# Altium footprint library SOIC - SmallOutlineIntegratedCircuit.PcbLib: 18 footprints (part 1 of 2)
Each footprint in its own frame and in the unit in brackets; x right, y up, seen from the top. Pads: shape width x height; smd on the part's side, far side on the other; paste and mask are expansions set on the pad; w line width, h text height; cw(c..) or ccw(c..) is an arc to the next point about the centre after c.
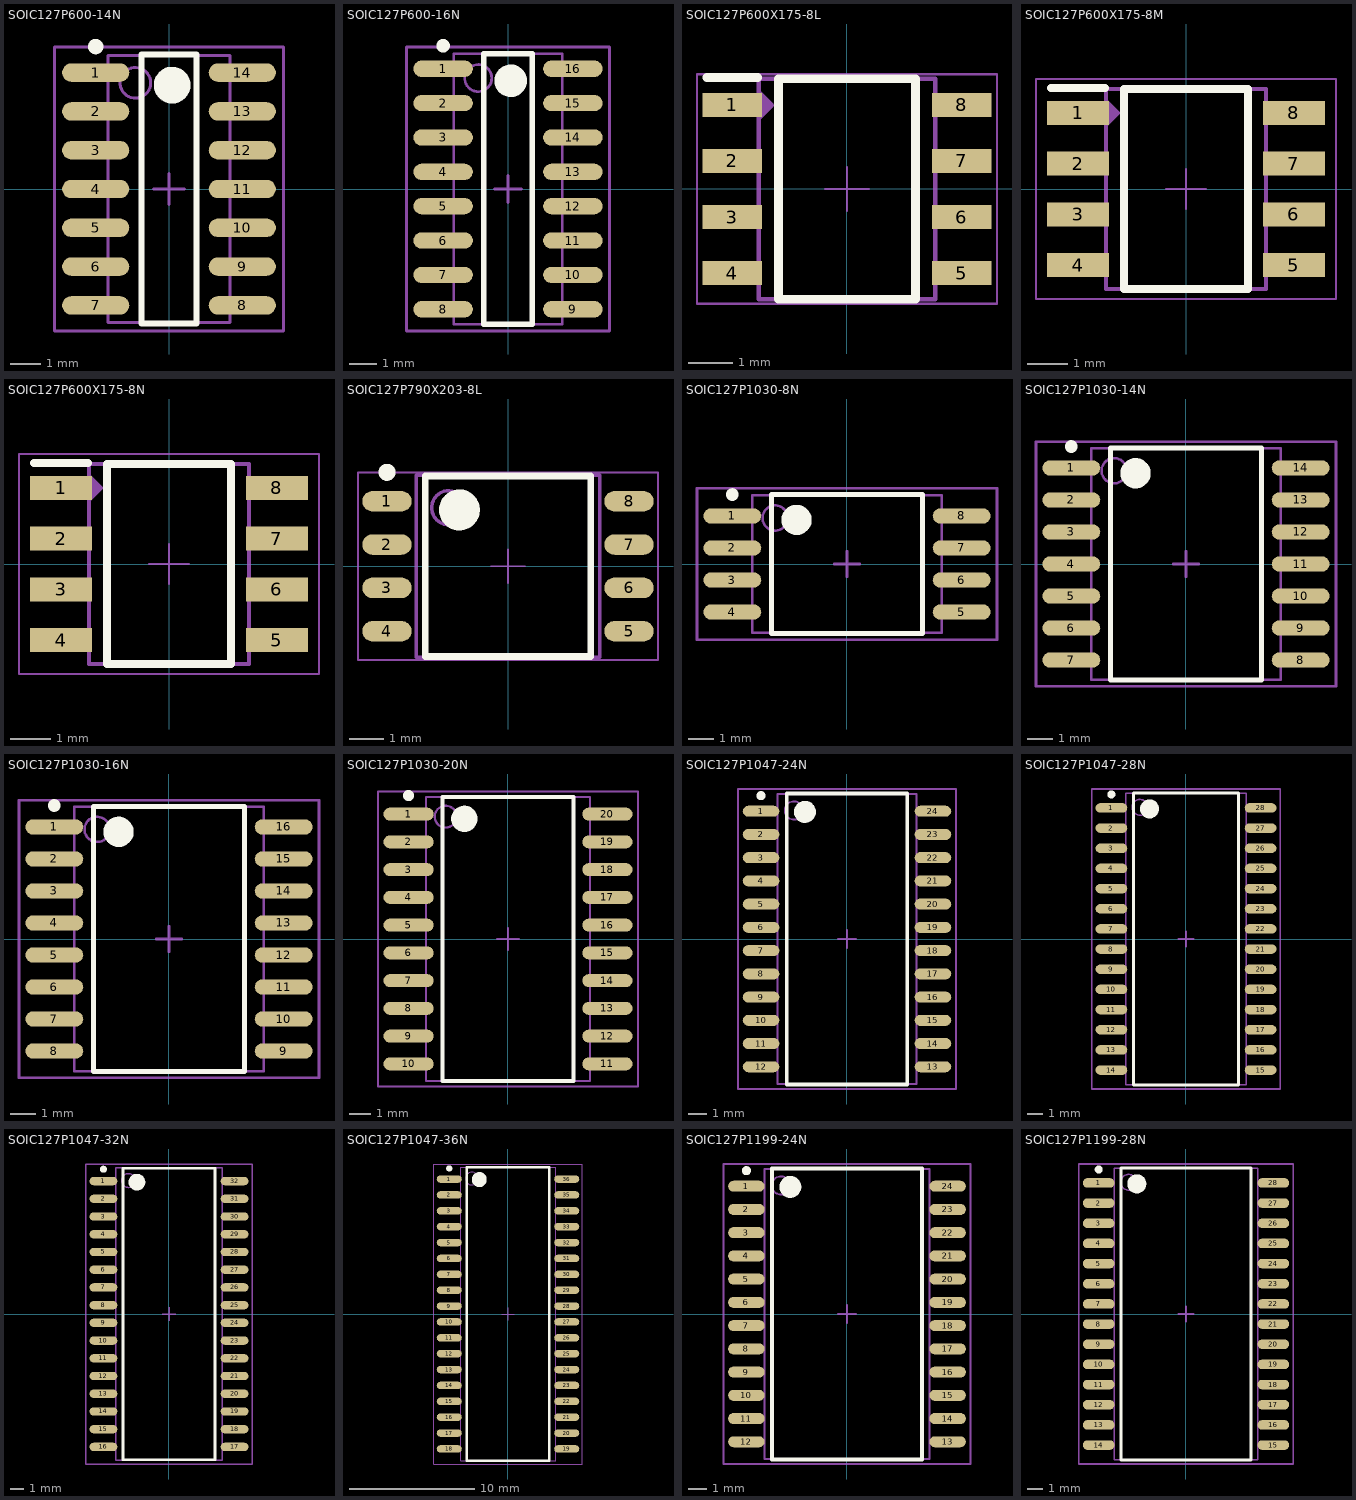
[diagram p0: the footprints below, top view; thin cyan lines are the x and y axes]

## SOIC127P600-14N [mm] "SOIC, 14-Leads, Body 8.7x3.9mm, Pitch 1.27mm, IPC Medium Density"
height 1.75
pads (14):
  oval 2.2x0.6 smd: 1(-2.4,3.81) 2(-2.4,2.54) 3(-2.4,1.27) 4(-2.4,0) 5(-2.4,-1.27) 6(-2.4,-2.54) 7(-2.4,-3.81) 8(2.4,-3.81) 9(2.4,-2.54) 10(2.4,-1.27) 11(2.4,0) 12(2.4,1.27) 13(2.4,2.54) 14(2.4,3.81)
Top Overlay:
  circle w0.25: c-2.4,4.66 r0.125
  circle w0.6: c0.1,3.4 r0.3
  lines w0.2: -0.9,-4.4 -0.9,4.4 0.9,4.4 0.9,-4.4 -0.9,-4.4
TopBody:
  circle w0.1: c-1.1,3.475 r0.5
  lines w0.1: -2,-4.375 -2,4.375 2,4.375 2,-4.375 -2,-4.375
  text ".Designator" at -0.8,-0.175 h0.5
TopCourtyard:
  lines w0.1: -0.5,0 0.5,0 ; 0,-0.5 0,0.5 ; -3.75,-4.65 -3.75,4.65 3.75,4.65 3.75,-4.65 -3.75,-4.65
3D body: height 1.75, standoff 0, extent -2,-4.375 2,4.375

## SOIC127P600-16N [mm] "SOIC, 16-Leads, Body 9.9x3.9mm, Pitch 1.27mm, IPC Medium Density"
height 1.75
pads (16):
  oval 2.2x0.6 smd: 1(-2.4,4.445) 2(-2.4,3.175) 3(-2.4,1.905) 4(-2.4,0.635) 5(-2.4,-0.635) 6(-2.4,-1.905) 7(-2.4,-3.175) 8(-2.4,-4.445) 9(2.4,-4.445) 10(2.4,-3.175) 11(2.4,-1.905) 12(2.4,-0.635) 13(2.4,0.635) 14(2.4,1.905) 15(2.4,3.175) 16(2.4,4.445)
Top Overlay:
  circle w0.25: c-2.4,5.295 r0.125
  circle w0.6: c0.1,4 r0.3
  lines w0.2: -0.9,-5 -0.9,5 0.9,5 0.9,-5 -0.9,-5
TopBody:
  circle w0.1: c-1.1,4.1 r0.5
  lines w0.1: -2,-5 -2,5 2,5 2,-5 -2,-5
  text ".Designator" at -0.825,-0.175 h0.5
TopCourtyard:
  lines w0.1: -0.5,0 0.5,0 ; 0,-0.5 0,0.5 ; -3.75,-5.25 -3.75,5.25 3.75,5.25 3.75,-5.25 -3.75,-5.25
3D body: height 1.75, standoff 0, extent -2,-5 2,5

## SOIC127P600X175-8L [mm] "SOIC, 8-Leads, Body 5.0x4.0mm, Pitch 1.27mm, IPC High Density"
height 1.75
pads (8):
  rect 1.35x0.55 smd: 1(-2.6,1.905) 2(-2.6,0.635) 3(-2.6,-0.635) 4(-2.6,-1.905) 5(2.6,-1.905) 6(2.6,-0.635) 7(2.6,0.635) 8(2.6,1.905)
Top Overlay:
  lines w0.2: -3.175,2.525 -2.025,2.525 ; -1.55,-2.5 -1.55,2.5 1.55,2.5 1.55,-2.5 -1.55,-2.5
TopBody:
  lines w0.1: -2,1.6 -1.7,1.9 -2,2.2 ; -2,1.7 -1.8,1.9 -2,2.1 ; -2,1.8 -1.9,1.9 -2,2 ; -2,-2.5 -2,2.5 2,2.5 2,-2.5 -2,-2.5
  text ".Designator" at -0.825,-0.175 h0.5
TopCourtyard:
  lines w0.05: -0.5,0 0.5,0 ; 0,-0.5 0,0.5 ; -3.4,-2.6 3.4,-2.6 3.4,2.6 -3.4,2.6 -3.4,-2.6
3D body: height 1.75, standoff 0, extent -2,-2.5 2,2.5

## SOIC127P600X175-8M [mm] "SOIC, 8-Leads, Body 5.0x4.0mm, Pitch 1.27mm, IPC Low Density"
height 1.75
pads (8):
  rect 1.55x0.6 smd: 1(-2.7,1.905) 2(-2.7,0.635) 3(-2.7,-0.635) 4(-2.7,-1.905) 5(2.7,-1.905) 6(2.7,-0.635) 7(2.7,0.635) 8(2.7,1.905)
Top Overlay:
  lines w0.2: -3.375,2.525 -2.025,2.525 ; -1.55,-2.5 -1.55,2.5 1.55,2.5 1.55,-2.5 -1.55,-2.5
TopBody:
  lines w0.1: -2,1.6 -1.7,1.9 -2,2.2 ; -2,1.7 -1.8,1.9 -2,2.1 ; -2,1.8 -1.9,1.9 -2,2 ; -2,-2.5 -2,2.5 2,2.5 2,-2.5 -2,-2.5
  text ".Designator" at -0.825,-0.175 h0.5
TopCourtyard:
  lines w0.05: -0.5,0 0.5,0 ; 0,-0.5 0,0.5 ; -3.75,-2.75 -3.75,2.75 3.75,2.75 3.75,-2.75 -3.75,-2.75
3D body: height 1.75, standoff 0, extent -2,-2.5 2,2.5

## SOIC127P600X175-8N [mm] "SOIC, 8-Leads, Body 5.0x4.0mm, Pitch 1.27mm, IPC Medium Density"
height 1.75
pads (8):
  rect 1.55x0.6 smd: 1(-2.7,1.905) 2(-2.7,0.635) 3(-2.7,-0.635) 4(-2.7,-1.905) 5(2.7,-1.905) 6(2.7,-0.635) 7(2.7,0.635) 8(2.7,1.905)
Top Overlay:
  lines w0.2: -3.375,2.525 -2.025,2.525 ; -1.55,-2.5 -1.55,2.5 1.55,2.5 1.55,-2.5 -1.55,-2.5
TopBody:
  lines w0.1: -2,1.6 -1.7,1.9 -2,2.2 ; -2,1.7 -1.8,1.9 -2,2.1 ; -2,1.8 -1.9,1.9 -2,2 ; -2,-2.5 -2,2.5 2,2.5 2,-2.5 -2,-2.5
  text ".Designator" at -0.825,-0.175 h0.5
TopCourtyard:
  lines w0.05: -0.5,0 0.5,0 ; 0,-0.5 0,0.5 ; -3.75,-2.75 -3.75,2.75 3.75,2.75 3.75,-2.75 -3.75,-2.75
3D body: height 1.75, standoff 0, extent -2,-2.5 2,2.5

## SOIC127P790X203-8L [mm] "SOIC, 8-Leads, Body 5.3x5.4mm (max), Pitch 1.27mm, IPC High Density"
height 2.03
pads (8):
  oval 1.45x0.6 smd: 1(-3.55,1.905) 2(-3.55,0.635) 3(-3.55,-0.635) 4(-3.55,-1.905) 5(3.55,-1.905) 6(3.55,-0.635) 7(3.55,0.635) 8(3.55,1.905)
Top Overlay:
  circle w0.6: c-1.425,1.65 r0.3
  circle w0.25: c-3.55,2.755 r0.125
  lines w0.2: -2.425,-2.65 2.425,-2.65 2.425,2.65 -2.425,2.65 -2.425,-2.65
TopBody:
  circle w0.1: c-1.74,1.715 r0.5
  lines w0.1: -2.69,-2.665 2.69,-2.665 2.69,2.665 -2.69,2.665 -2.69,-2.665
TopCourtyard:
  lines w0.05: -0.5,0 0,0 ; 0,-0.5 0,0 ; 0,0.5 0,0 ; 0.5,0 0,0 ; -4.4,-2.75 4.4,-2.75 4.4,2.75 -4.4,2.75 -4.4,-2.75
3D body: height 2.03, standoff 0.05, extent -2.69,-2.665 2.69,2.665

## SOIC127P1030-8N [mm] "SOIC, 8-Leads, Body 5.3x7.5mm, Pitch 1.27mm, IPC Medium Density"
height 2.65
pads (8):
  oval 2.3x0.6 smd: 1(-4.55,1.905) 2(-4.55,0.635) 3(-4.55,-0.635) 4(-4.55,-1.905) 5(4.55,-1.905) 6(4.55,-0.635) 7(4.55,0.635) 8(4.55,1.905)
Top Overlay:
  circle w0.6: c-2,1.75 r0.3
  circle w0.25: c-4.55,2.755 r0.125
  lines w0.2: -3,-2.75 3,-2.75 3,2.75 -3,2.75 -3,-2.75
TopBody:
  circle w0.1: c-2.85,1.825 r0.5
  lines w0.1: -3.75,-2.725 3.75,-2.725 3.75,2.725 -3.75,2.725 -3.75,-2.725
  text ".Designator" at -0.825,-0.175 h0.5
TopCourtyard:
  lines w0.1: -0.5,0 0.5,0 ; 0,-0.5 0,0.5 ; -5.95,-3 5.95,-3 5.95,3 -5.95,3 -5.95,-3
3D body: height 2.65, standoff 0, extent -3.75,-2.725 3.75,2.725

## SOIC127P1030-14N [mm] "SOIC, 14-Leads, Body 9x7.5mm, Pitch 1.27mm, IPC Medium Density"
height 2.65
pads (14):
  oval 2.3x0.6 smd: 1(-4.55,3.81) 2(-4.55,2.54) 3(-4.55,1.27) 4(-4.55,0) 5(-4.55,-1.27) 6(-4.55,-2.54) 7(-4.55,-3.81) 8(4.55,-3.81) 9(4.55,-2.54) 10(4.55,-1.27) 11(4.55,0) 12(4.55,1.27) 13(4.55,2.54) 14(4.55,3.81)
Top Overlay:
  circle w0.6: c-2,3.6 r0.3
  circle w0.25: c-4.55,4.66 r0.125
  lines w0.2: -3,-4.6 3,-4.6 3,4.6 -3,4.6 -3,-4.6
TopBody:
  circle w0.1: c-2.85,3.7 r0.5
  lines w0.1: -3.75,-4.6 3.75,-4.6 3.75,4.6 -3.75,4.6 -3.75,-4.6
  text ".Designator" at -0.825,-0.175 h0.5
TopCourtyard:
  lines w0.1: -0.5,0 0.5,0 ; 0,-0.5 0,0.5 ; -5.95,-4.85 5.95,-4.85 5.95,4.85 -5.95,4.85 -5.95,-4.85
3D body: height 2.65, standoff 0, extent -3.75,-4.6 3.75,4.6

## SOIC127P1030-16N [mm] "SOIC, 16-Leads, Body 10.3x7.5mm, Pitch 1.27mm, IPC Medium Density"
height 2.65
pads (16):
  oval 2.3x0.6 smd: 1(-4.55,4.445) 2(-4.55,3.175) 3(-4.55,1.905) 4(-4.55,0.635) 5(-4.55,-0.635) 6(-4.55,-1.905) 7(-4.55,-3.175) 8(-4.55,-4.445) 9(4.55,-4.445) 10(4.55,-3.175) 11(4.55,-1.905) 12(4.55,-0.635) 13(4.55,0.635) 14(4.55,1.905) 15(4.55,3.175) 16(4.55,4.445)
Top Overlay:
  circle w0.25: c-4.55,5.295 r0.125
  circle w0.6: c-2,4.25 r0.3
  lines w0.2: -3,-5.25 -3,5.25 3,5.25 3,-5.25 -3,-5.25
TopBody:
  circle w0.1: c-2.85,4.35 r0.5
  lines w0.1: -3.75,-5.25 -3.75,5.25 3.75,5.25 3.75,-5.25 -3.75,-5.25
  text ".Designator" at -0.825,-0.175 h0.5
TopCourtyard:
  lines w0.1: -0.5,0 0.5,0 ; 0,-0.5 0,0.5 ; -5.95,-5.5 -5.95,5.5 5.95,5.5 5.95,-5.5 -5.95,-5.5
3D body: height 2.65, standoff 0, extent -3.75,-5.25 3.75,5.25

## SOIC127P1030-20N [mm] "SOIC, 20-Leads, Body 12.8x7.5mm, Pitch 1.27mm, IPC Medium Density"
height 2.65
pads (20):
  oval 2.3x0.6 smd: 1(-4.55,5.715) 2(-4.55,4.445) 3(-4.55,3.175) 4(-4.55,1.905) 5(-4.55,0.635) 6(-4.55,-0.635) 7(-4.55,-1.905) 8(-4.55,-3.175) 9(-4.55,-4.445) 10(-4.55,-5.715) 11(4.55,-5.715) 12(4.55,-4.445) 13(4.55,-3.175) 14(4.55,-1.905) 15(4.55,-0.635) 16(4.55,0.635) 17(4.55,1.905) 18(4.55,3.175) 19(4.55,4.445) 20(4.55,5.715)
Top Overlay:
  circle w0.25: c-4.55,6.565 r0.125
  circle w0.6: c-2,5.5 r0.3
  lines w0.2: -3,-6.5 -3,6.5 3,6.5 3,-6.5 -3,-6.5
TopBody:
  circle w0.1: c-2.85,5.6 r0.5
  lines w0.1: -3.75,-6.5 -3.75,6.5 3.75,6.5 3.75,-6.5 -3.75,-6.5
  text ".Designator" at -0.825,-0.175 h0.5
TopCourtyard:
  lines w0.1: -0.5,0 0.5,0 ; 0,-0.5 0,0.5 ; -5.95,-6.75 -5.95,6.75 5.95,6.75 5.95,-6.75 -5.95,-6.75
3D body: height 2.65, standoff 0, extent -3.75,-6.5 3.75,6.5

## SOIC127P1047-24N [mm] "SOIC, 24-Leads, Body 15.4x7.5mm, Pitch 1.27mm, IPC Medium Density"
height 2.67
pads (24):
  oval 2x0.6 smd: 1(-4.7,6.985) 2(-4.7,5.715) 3(-4.7,4.445) 4(-4.7,3.175) 5(-4.7,1.905) 6(-4.7,0.635) 7(-4.7,-0.635) 8(-4.7,-1.905) 9(-4.7,-3.175) 10(-4.7,-4.445) 11(-4.7,-5.715) 12(-4.7,-6.985) 13(4.7,-6.985) 14(4.7,-5.715) 15(4.7,-4.445) 16(4.7,-3.175) 17(4.7,-1.905) 18(4.7,-0.635) 19(4.7,0.635) 20(4.7,1.905) 21(4.7,3.175) 22(4.7,4.445) 23(4.7,5.715) 24(4.7,6.985)
Top Overlay:
  circle w0.25: c-4.7,7.835 r0.125
  circle w0.6: c-2.3,6.95 r0.3
  lines w0.2: -3.3,-7.95 -3.3,7.95 3.3,7.95 3.3,-7.95 -3.3,-7.95
TopBody:
  circle w0.1: c-2.9,7.025 r0.5
  lines w0.1: -3.8,-7.925 -3.8,7.925 3.8,7.925 3.8,-7.925 -3.8,-7.925
  text ".Designator" at -0.825,-0.175 h0.5
TopCourtyard:
  lines w0.1: -0.5,0 0.5,0 ; 0,-0.5 0,0.5 ; -5.95,-8.2 -5.95,8.2 5.95,8.2 5.95,-8.2 -5.95,-8.2
3D body: height 2.67, standoff 0, extent -3.8,-7.925 3.8,7.925

## SOIC127P1047-28N [mm] "SOIC, 28-Leads, Body 18.2x7.5mm, Pitch 1.27mm, IPC Medium Density"
height 2.64
pads (28):
  oval 2x0.6 smd: 1(-4.7,8.255) 2(-4.7,6.985) 3(-4.7,5.715) 4(-4.7,4.445) 5(-4.7,3.175) 6(-4.7,1.905) 7(-4.7,0.635) 8(-4.7,-0.635) 9(-4.7,-1.905) 10(-4.7,-3.175) 11(-4.7,-4.445) 12(-4.7,-5.715) 13(-4.7,-6.985) 14(-4.7,-8.255) 15(4.7,-8.255) 16(4.7,-6.985) 17(4.7,-5.715) 18(4.7,-4.445) 19(4.7,-3.175) 20(4.7,-1.905) 21(4.7,-0.635) 22(4.7,0.635) 23(4.7,1.905) 24(4.7,3.175) 25(4.7,4.445) 26(4.7,5.715) 27(4.7,6.985) 28(4.7,8.255)
Top Overlay:
  circle w0.6: c-2.3,8.2 r0.3
  circle w0.25: c-4.7,9.105 r0.125
  lines w0.2: -3.3,-9.2 3.3,-9.2 3.3,9.2 -3.3,9.2 -3.3,-9.2
TopBody:
  circle w0.1: c-2.9,8.295 r0.5
  lines w0.1: -3.8,-9.195 3.8,-9.195 3.8,9.195 -3.8,9.195 -3.8,-9.195
  text ".Designator" at -0.85,-0.175 h0.5
TopCourtyard:
  lines w0.1: -0.5,0 0.5,0 ; 0,-0.5 0,0.5 ; -5.95,-9.45 5.95,-9.45 5.95,9.45 -5.95,9.45 -5.95,-9.45
3D body: height 2.64, standoff 0, extent -3.8,-9.195 3.8,9.195

## SOIC127P1047-32N [mm] "SOIC, 32-Leads, Body 20.8x7.5mm, Pitch 1.27mm, IPC Medium Density"
height 2.64
pads (32):
  oval 2x0.6 smd: 1(-4.7,9.525) 2(-4.7,8.255) 3(-4.7,6.985) 4(-4.7,5.715) 5(-4.7,4.445) 6(-4.7,3.175) 7(-4.7,1.905) 8(-4.7,0.635) 9(-4.7,-0.635) 10(-4.7,-1.905) 11(-4.7,-3.175) 12(-4.7,-4.445) 13(-4.7,-5.715) 14(-4.7,-6.985) 15(-4.7,-8.255) 16(-4.7,-9.525) 17(4.7,-9.525) 18(4.7,-8.255) 19(4.7,-6.985) 20(4.7,-5.715) 21(4.7,-4.445) 22(4.7,-3.175) 23(4.7,-1.905) 24(4.7,-0.635) 25(4.7,0.635) 26(4.7,1.905) 27(4.7,3.175) 28(4.7,4.445) 29(4.7,5.715) 30(4.7,6.985) 31(4.7,8.255) 32(4.7,9.525)
Top Overlay:
  circle w0.6: c-2.3,9.45 r0.3
  circle w0.25: c-4.7,10.375 r0.125
  lines w0.2: -3.3,-10.45 3.3,-10.45 3.3,10.45 -3.3,10.45 -3.3,-10.45
TopBody:
  circle w0.1: c-2.9,9.565 r0.5
  lines w0.1: -3.8,-10.465 3.8,-10.465 3.8,10.465 -3.8,10.465 -3.8,-10.465
  text ".Designator" at -0.85,-0.175 h0.5
TopCourtyard:
  lines w0.1: -0.5,0 0.5,0 ; 0,-0.5 0,0.5 ; -5.95,-10.75 5.95,-10.75 5.95,10.75 -5.95,10.75 -5.95,-10.75
3D body: height 2.64, standoff 0, extent -3.8,-10.465 3.8,10.465

## SOIC127P1047-36N [mm] "SOIC, 36-Leads, Body 23.3x7.5mm, Pitch 1.27mm, IPC Medium Density"
height 2.64
pads (36):
  oval 2x0.6 smd: 1(-4.7,10.795) 2(-4.7,9.525) 3(-4.7,8.255) 4(-4.7,6.985) 5(-4.7,5.715) 6(-4.7,4.445) 7(-4.7,3.175) 8(-4.7,1.905) 9(-4.7,0.635) 10(-4.7,-0.635) 11(-4.7,-1.905) 12(-4.7,-3.175) 13(-4.7,-4.445) 14(-4.7,-5.715) 15(-4.7,-6.985) 16(-4.7,-8.255) 17(-4.7,-9.525) 18(-4.7,-10.795) 19(4.7,-10.795) 20(4.7,-9.525) 21(4.7,-8.255) 22(4.7,-6.985) 23(4.7,-5.715) 24(4.7,-4.445) 25(4.7,-3.175) 26(4.7,-1.905) 27(4.7,-0.635) 28(4.7,0.635) 29(4.7,1.905) 30(4.7,3.175) 31(4.7,4.445) 32(4.7,5.715) 33(4.7,6.985) 34(4.7,8.255) 35(4.7,9.525) 36(4.7,10.795)
Top Overlay:
  circle w0.25: c-4.7,11.645 r0.125
  circle w0.6: c-2.3,10.75 r0.3
  lines w0.2: -3.3,-11.75 -3.3,11.75 3.3,11.75 3.3,-11.75 -3.3,-11.75
TopBody:
  circle w0.1: c-2.9,10.835 r0.5
  lines w0.1: -3.8,-11.735 -3.8,11.735 3.8,11.735 3.8,-11.735 -3.8,-11.735
  text ".Designator" at -0.85,-0.175 h0.5
TopCourtyard:
  lines w0.1: -0.5,0 0.5,0 ; 0,-0.5 0,0.5 ; -5.95,-12 -5.95,12 5.95,12 5.95,-12 -5.95,-12
3D body: height 2.64, standoff 0, extent -3.8,-11.735 3.8,11.735

## SOIC127P1199-24N [mm] "SOIC, 24-Leads, Body 15.7x8.9mm, Pitch 1.27mm, IPC Medium Density"
height 2.64
pads (24):
  oval 2x0.6 smd: 1(-5.5,6.985) 2(-5.5,5.715) 3(-5.5,4.445) 4(-5.5,3.175) 5(-5.5,1.905) 6(-5.5,0.635) 7(-5.5,-0.635) 8(-5.5,-1.905) 9(-5.5,-3.175) 10(-5.5,-4.445) 11(-5.5,-5.715) 12(-5.5,-6.985) 13(5.5,-6.985) 14(5.5,-5.715) 15(5.5,-4.445) 16(5.5,-3.175) 17(5.5,-1.905) 18(5.5,-0.635) 19(5.5,0.635) 20(5.5,1.905) 21(5.5,3.175) 22(5.5,4.445) 23(5.5,5.715) 24(5.5,6.985)
Top Overlay:
  circle w0.6: c-3.1,6.95 r0.3
  circle w0.25: c-5.5,7.835 r0.125
  lines w0.2: -4.1,-7.95 4.1,-7.95 4.1,7.95 -4.1,7.95 -4.1,-7.95
TopBody:
  circle w0.1: c-3.61,7.025 r0.5
  lines w0.1: -4.51,-7.925 4.51,-7.925 4.51,7.925 -4.51,7.925 -4.51,-7.925
  text ".Designator" at -0.825,-0.175 h0.5
TopCourtyard:
  lines w0.1: -0.5,0 0.5,0 ; 0,-0.5 0,0.5 ; -6.75,-8.2 6.75,-8.2 6.75,8.2 -6.75,8.2 -6.75,-8.2
3D body: height 2.64, standoff 0, extent -4.51,-7.925 4.51,7.925

## SOIC127P1199-28N [mm] "SOIC, 28-Leads, Body 18.3x8.4mm, Pitch 1.27mm, IPC Medium Density"
height 3
pads (28):
  oval 2x0.6 smd: 1(-5.5,8.255) 2(-5.5,6.985) 3(-5.5,5.715) 4(-5.5,4.445) 5(-5.5,3.175) 6(-5.5,1.905) 7(-5.5,0.635) 8(-5.5,-0.635) 9(-5.5,-1.905) 10(-5.5,-3.175) 11(-5.5,-4.445) 12(-5.5,-5.715) 13(-5.5,-6.985) 14(-5.5,-8.255) 15(5.5,-8.255) 16(5.5,-6.985) 17(5.5,-5.715) 18(5.5,-4.445) 19(5.5,-3.175) 20(5.5,-1.905) 21(5.5,-0.635) 22(5.5,0.635) 23(5.5,1.905) 24(5.5,3.175) 25(5.5,4.445) 26(5.5,5.715) 27(5.5,6.985) 28(5.5,8.255)
Top Overlay:
  circle w0.6: c-3.1,8.2 r0.3
  circle w0.25: c-5.5,9.105 r0.125
  lines w0.2: -4.1,-9.2 4.1,-9.2 4.1,9.2 -4.1,9.2 -4.1,-9.2
TopBody:
  circle w0.1: c-3.61,8.295 r0.5
  lines w0.1: -4.51,-9.195 4.51,-9.195 4.51,9.195 -4.51,9.195 -4.51,-9.195
  text ".Designator" at -0.825,-0.175 h0.5
TopCourtyard:
  lines w0.1: -0.5,0 0.5,0 ; 0,-0.5 0,0.5 ; -6.75,-9.45 6.75,-9.45 6.75,9.45 -6.75,9.45 -6.75,-9.45
3D body: height 3, standoff 0, extent -4.51,-9.195 4.51,9.195